# Altium schematic symbol library TLC1543CDWG4.SchLib: 1 symbol
Pins are listed as number, name and electrical type; pins without a type are passive.

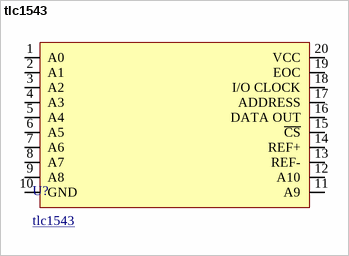
[diagram p0: symbol tlc1543]

## tlc1543
designator U?
footprint tlc1543
pins: 1 A0, 2 A1, 3 A2, 4 A3, 5 A4, 6 A5, 7 A6, 8 A7, 9 A8, 10 GND, 11 A9, 12 A10, 13 REF-, 14 REF+, 15 ~{CS}, 16 DATA OUT, 17 ADDRESS, 18 I/O CLOCK, 19 EOC, 20 VCC